# Altium footprint library Trans.PcbLib: 4 footprints
Each footprint in its own frame and in the unit in brackets; x right, y up, seen from the top. Pads: shape width x height; smd on the part's side, far side on the other; paste and mask are expansions set on the pad; w line width, h text height; cw(c..) or ccw(c..) is an arc to the next point about the centre after c.
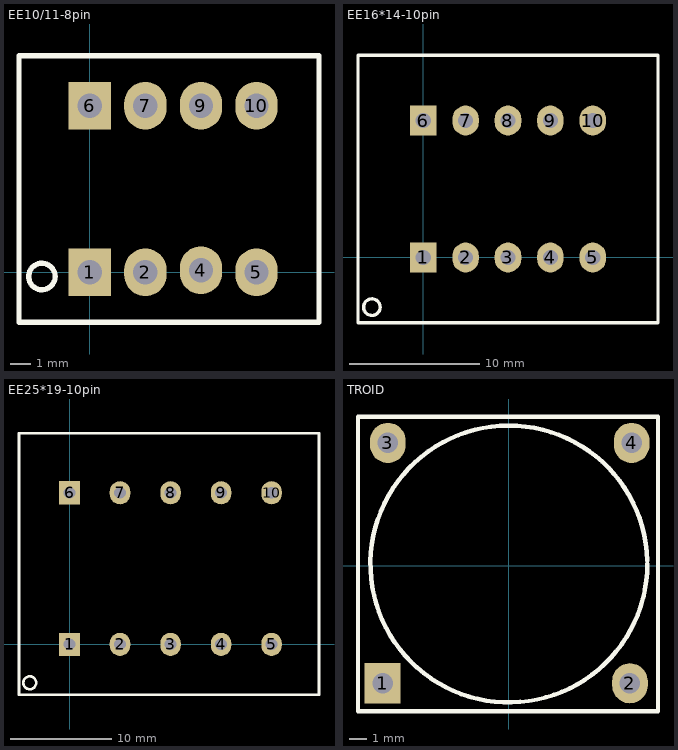
[diagram p0: the footprints below, top view; thin cyan lines are the x and y axes]

## EE10/11-8pin [mil]
pads (8):
  rect 80x90 hole 46: 1(0,0) 6(0,314.96)
  oval 80x90 hole 46: 2(104.99,0) 4(209.97,3.94) 5(314.96,0) 7(104.99,314.96) 9(209.97,314.96) 10(314.96,314.96)
Top Overlay:
  circle w10: c-90.55,-7.87 r25
  lines w10: -133.86,-94.49 433.07,-94.49 433.07,409.45 -133.86,409.45 -133.86,-94.49
3D body: height 669.29, standoff 118.11, extent -135.83,-101.38 433.07,409.45
3D body: height 118.11, standoff 0, extent -19.53,-19.64 19.69,19.65
3D body: height 118.11, standoff 0, extent 85.46,-19.64 124.68,19.65
3D body: height 118.11, standoff 0, extent 190.45,-15.7 229.67,23.59
3D body: height 118.11, standoff 0, extent 295.44,-19.64 334.66,19.65
3D body: height 118.11, standoff 0, extent 190.45,295.32 229.67,334.61
3D body: height 118.11, standoff 0, extent -19.52,295.32 19.69,334.61
3D body: height 118.11, standoff 0, extent 295.43,295.32 334.65,334.61
3D body: height 118.11, standoff 0, extent 85.46,295.32 124.68,334.61

## EE16*14-10pin [mil]
pads (10):
  rect 80x90 hole 46: 1(0,0) 6(0,413.39)
  oval 80x90 hole 46: 2(127.95,0) 3(255.91,0) 4(383.86,0) 5(511.81,0) 7(127.95,413.39) 8(255.91,413.39) 9(383.86,413.39) 10(511.81,413.39)
Top Overlay:
  circle w10: c-155,-150 r25
  lines w10: -196.85,-196.85 708.66,-196.85 708.66,610.24 -196.85,610.24 -196.85,-196.85
3D body: height 669.29, standoff 118.11, extent -196.85,-202.76 708.66,604.33
3D body: height 118.11, standoff 0, extent -19.53,-19.64 19.69,19.65
3D body: height 118.11, standoff 0, extent 108.43,-19.64 147.64,19.65
3D body: height 118.11, standoff 0, extent 236.38,-19.64 275.6,19.65
3D body: height 118.11, standoff 0, extent 364.34,-19.64 403.55,19.65
3D body: height 118.11, standoff 0, extent 492.29,-19.64 531.5,19.65
3D body: height 118.11, standoff 0, extent -19.52,393.75 19.69,433.04
3D body: height 118.11, standoff 0, extent 108.43,393.75 147.64,433.04
3D body: height 118.11, standoff 0, extent 236.38,393.75 275.6,433.04
3D body: height 118.11, standoff 0, extent 364.34,393.75 403.55,433.04
3D body: height 118.11, standoff 0, extent 492.29,393.75 531.5,433.04

## EE25*19-10pin [mil]
pads (10):
  rect 80x90 hole 46: 1(0,0) 6(0,590.55)
  oval 80x90 hole 46: 2(196.85,0) 3(393.7,0) 4(590.55,0) 5(787.4,0) 7(196.85,590.55) 8(393.7,590.55) 9(590.55,590.55) 10(787.4,590.55)
Top Overlay:
  circle w10: c-155,-150 r25
  lines w10: -196.85,-196.85 -196.85,822.83 972.44,822.83 972.44,-196.85 -196.85,-196.85
3D body: height 118.11, standoff 0, extent 763.94,594.53 803.16,633.82
3D body: height 118.11, standoff 0, extent 568.08,594.53 607.29,633.82
3D body: height 118.11, standoff 0, extent 372.21,594.53 411.43,633.82
3D body: height 118.11, standoff 0, extent 176.34,594.53 215.56,633.82
3D body: height 118.11, standoff 0, extent -19.52,594.53 19.69,633.82
3D body: height 118.11, standoff 0, extent 763.93,-15.7 803.15,23.59
3D body: height 118.11, standoff 0, extent 568.03,-15.7 607.24,23.59
3D body: height 118.11, standoff 0, extent 372.12,-15.7 411.34,23.59
3D body: height 118.11, standoff 0, extent 176.22,-15.7 215.44,23.59
3D body: height 118.11, standoff 0, extent -19.68,-15.7 19.53,23.59
3D body: height 669.29, standoff 118.11, extent -196.85,-202.76 972.44,818.9

## TROID [mil]
pads (4):
  rect 80x90 hole 46: 1(-283.46,-263.78)
  oval 80x90 hole 46: 2(271.65,-263.78) 3(-271.65,275.59) 4(275.59,275.59)
Top Overlay:
  lines w10: 310.61,11.25 ccw(c0,3.94) 310.7,3.94 ; -338.58,-326.77 -338.58,334.65 334.65,334.65 334.65,-326.77 -338.58,-326.77
3D body: height 275.59, standoff 39.37, extent -271.65,-271.65 279.53,279.53